# Altium footprint library Inductor_SMD.PcbLib: 259 footprints (part 16 of 17)
Each footprint in its own frame and in the unit in brackets; x right, y up, seen from the top. Pads: shape width x height; smd on the part's side, far side on the other; paste and mask are expansions set on the pad; w line width, h text height; cw(c..) or ccw(c..) is an arc to the next point about the centre after c.
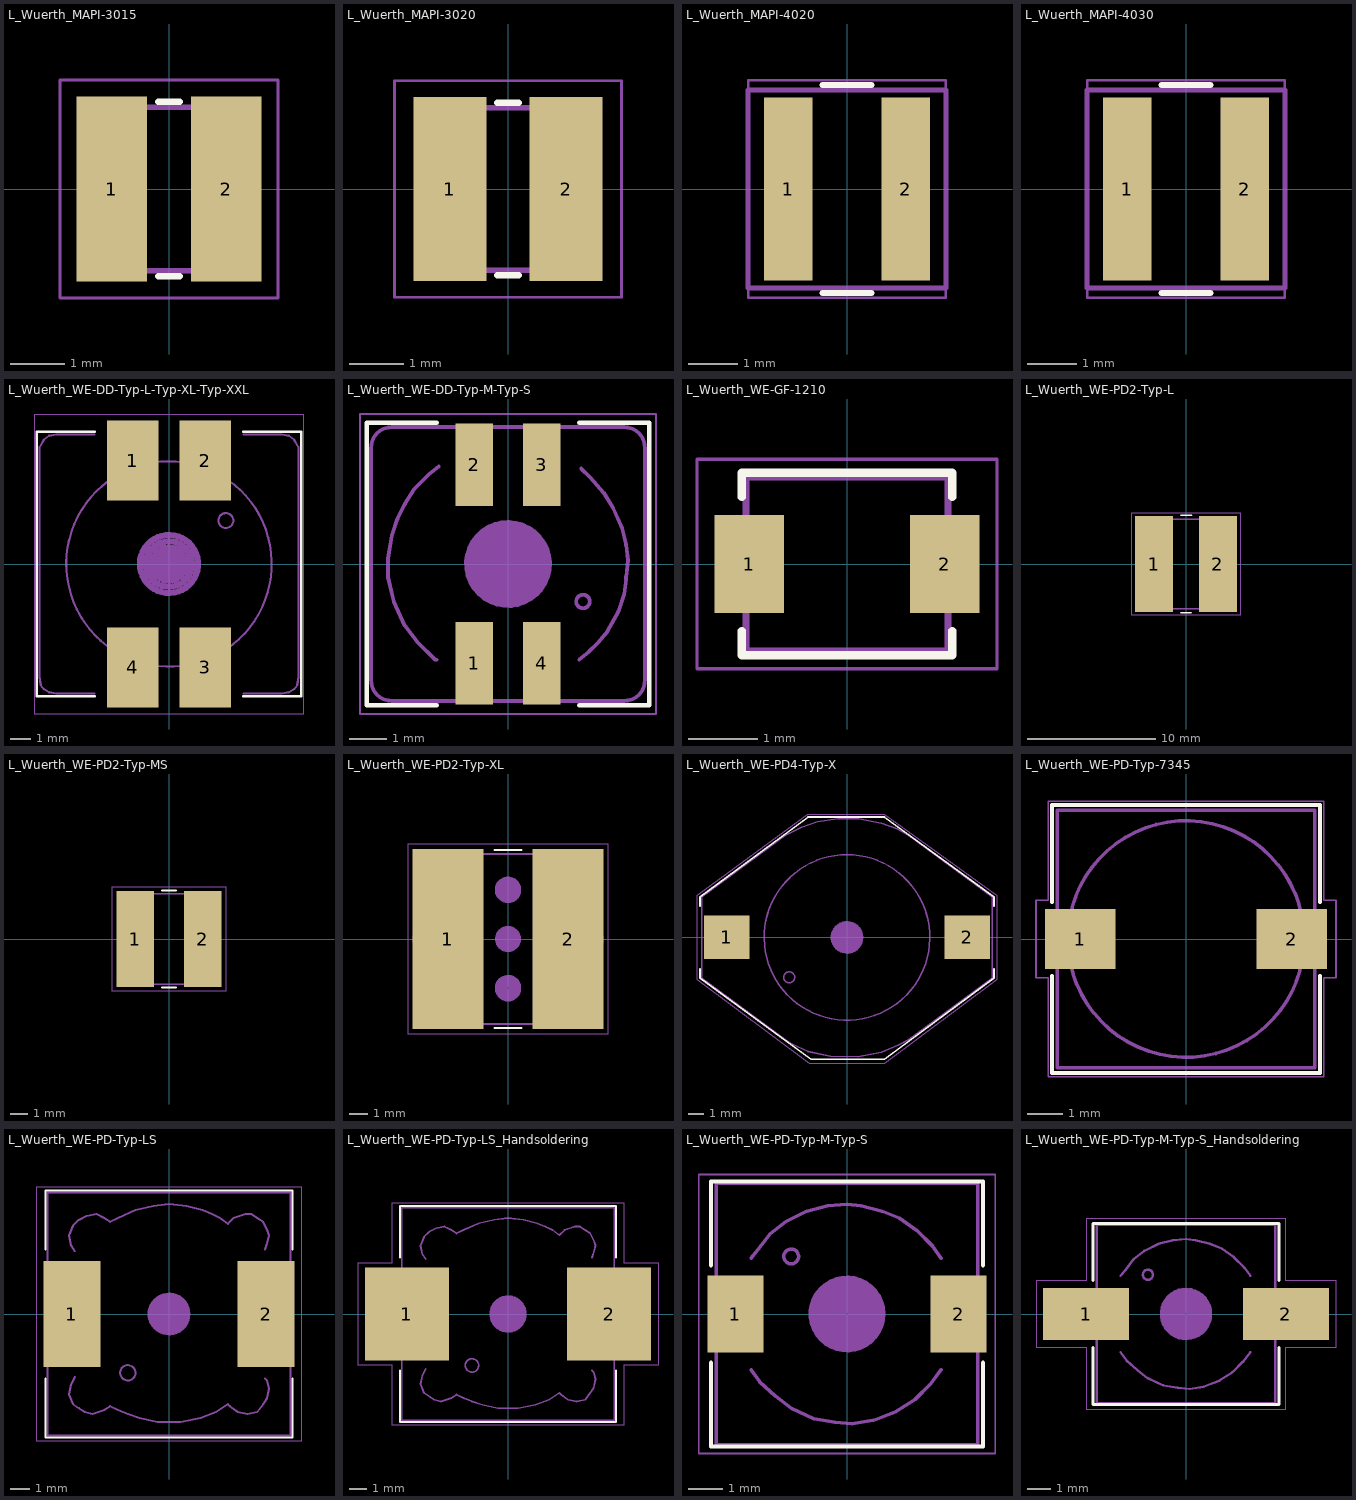
[diagram p15: the footprints below, top view; thin cyan lines are the x and y axes]

## L_Wuerth_MAPI-3015 [mm]
pads (2):
  rect 1.3x3.4 smd: 1(-1.05,0) 2(1.05,0)
F.SilkS:
  lines w0.12: -0.2,-1.6 0.2,-1.6 ; -0.2,1.6 0.2,1.6
F.CrtYd:
  lines w0.05: -2,-2 2,-2 2,2 -2,2 -2,-2
F.Fab:
  lines w0.1: -1.5,-1.5 1.5,-1.5 1.5,1.5 -1.5,1.5 -1.5,-1.5
  text "'.Designator'" at -2.833,-0.588 h0.7

## L_Wuerth_MAPI-3020 [mm]
pads (2):
  rect 1.35x3.4 smd: 1(-1.075,0) 2(1.075,0)
F.SilkS:
  lines w0.12: -0.2,-1.6 0.2,-1.6 ; -0.2,1.6 0.2,1.6
F.CrtYd:
  lines w0.05: -2.1,-2 2.1,-2 2.1,2 -2.1,2 -2.1,-2
F.Fab:
  lines w0.1: -1.5,-1.5 1.5,-1.5 1.5,1.5 -1.5,1.5 -1.5,-1.5
  text "'.Designator'" at -2.833,-0.588 h0.7

## L_Wuerth_MAPI-4020 [mm]
pads (2):
  rect 0.98x3.7 smd: 1(-1.185,0) 2(1.185,0)
F.SilkS:
  lines w0.12: -0.495,-2.1 0.495,-2.1 ; -0.495,2.1 0.495,2.1
F.CrtYd:
  lines w0.05: -2,-2.2 2,-2.2 2,2.2 -2,2.2 -2,-2.2
F.Fab:
  lines w0.1: -2,-2 -2,2 2,2 2,-2 -2,-2
  text "'.Designator'" at -3.267,-0.702 h0.8

## L_Wuerth_MAPI-4030 [mm]
pads (2):
  rect 0.98x3.7 smd: 1(-1.185,0) 2(1.185,0)
F.SilkS:
  lines w0.12: -0.495,-2.1 0.495,-2.1 ; -0.495,2.1 0.495,2.1
F.CrtYd:
  lines w0.05: -2,-2.2 2,-2.2 2,2.2 -2,2.2 -2,-2.2
F.Fab:
  lines w0.1: -2,-2 2,-2 2,2 -2,2 -2,-2
  text "'.Designator'" at -3.267,-0.702 h0.8

## L_Wuerth_WE-DD-Typ-L-Typ-XL-Typ-XXL [mm]
pads (4):
  rect 2.5x3.85 smd: 1(-1.75,5) 2(1.75,5) 3(1.75,-5) 4(-1.75,-5)
F.SilkS:
  lines w0.12: -3.6,-6.4 -6.4,-6.4 -6.4,6.4 -3.6,6.4 ; 3.6,-6.4 6.4,-6.4 6.4,6.4 3.6,6.4
F.CrtYd:
  lines w0.05: -6.5,-7.25 -6.5,7.25 6.5,7.25 6.5,-7.25 -6.5,-7.25
F.Fab:
  circle w0.1: c0,0 r4.966
  circle w0.1: c2.75,2.1 r0.361
  lines w0.1: -3.6,-6.25 -5.45,-6.25 -5.8,-6.2 -6.05,-6.05 -6.2,-5.85 -6.25,-5.45 -6.25,5.45 -6.25,5.65 -6.05,6 -5.8,6.2 -5.45,6.25 -3.6,6.25 ; 3.6,-6.25 5.45,-6.25 5.8,-6.2 6.05,-6.05 6.2,-5.85 6.25,-5.45 6.25,5.45 6.25,5.65 6.05,6 5.8,6.2 5.45,6.25 3.6,6.25
  text "'.Designator'" at -4.047,-0.84 h1
F.Adhes:
  circle w0.3: c0,0 r0.1
  circle w0.3: c0,0 r0.316
  circle w0.3: c0,0 r1.404
  circle w0.3: c0,0 r1.105
  circle w0.3: c0,0 r0.6
  circle w0.3: c0,0 r0.806

## L_Wuerth_WE-DD-Typ-M-Typ-S [mm]
pads (4):
  rect 1x2.2 smd: 1(-0.9,-2.65) 2(-0.9,2.65) 3(0.9,2.65) 4(0.9,-2.65)
F.SilkS:
  lines w0.12: -1.9,-3.77 -3.77,-3.77 -3.77,3.77 -1.9,3.77 ; 1.9,-3.77 3.77,-3.77 3.77,3.77 1.9,3.77
F.CrtYd:
  lines w0.05: -3.95,-4 3.95,-4 3.95,4 -3.95,4 -3.95,-4
F.Fab:
  circle w0.1: c2,-1 r0.18
  lines w0.1: -1.9,-2.55 -1.95,-2.55 -2.4,-2.1 -2.75,-1.65 -3.05,-1 -3.2,-0.35 -3.2,0.15 -3.1,0.75 -2.95,1.2 -2.75,1.6 -2.5,2 -2.1,2.4 -1.85,2.6 ; 1.9,-2.55 2.15,-2.35 2.4,-2.1 2.65,-1.8 2.95,-1.25 3.1,-0.8 3.15,-0.4 ; 1.95,2.55 2.2,2.3 2.55,1.9 2.8,1.5 3.05,0.95 3.15,0.5 3.2,0.1 3.15,-0.35 ; -3.65,-3.1 -3.65,3.1 cw(c-3.1,3.1) -3.1,3.65 3.1,3.65 cw(c3.1,3.1) 3.65,3.1 3.65,-3.1 cw(c3.1,-3.1) 3.1,-3.65 -3.1,-3.65 cw(c-3.1,-3.1) -3.65,-3.1
  text "'.Designator'" at -4.047,-0.84 h1
F.Adhes:
  circle w0.3: c0,0 r0.316
  circle w0.3: c0,0 r0.6
  circle w0.3: c0,0 r0.1
  circle w0.3: c0,0 r0.806
  circle w0.3: c0,0 r1.02
  circle w0.3: c0.8,0 r0

## L_Wuerth_WE-GF-1210 [mm]
pads (2):
  rect 1x1.4 smd: 1(-1.4,0) 2(1.4,0)
F.SilkS:
  lines w0.12: -1.51,-0.96 -1.51,-1.31 1.51,-1.31 1.51,-0.96 ; -1.51,0.96 -1.51,1.31 1.51,1.31 1.51,0.96
F.CrtYd:
  lines w0.05: -2.15,-1.5 2.15,-1.5 2.15,1.5 -2.15,1.5 -2.15,-1.5
F.Fab:
  lines w0.1: -1.6,-0.5 -1.45,-0.5 -1.45,-1.25 1.45,-1.25 1.45,-0.5 1.6,-0.5 1.6,0.5 1.45,0.5 1.45,1.25 -1.45,1.25 -1.45,0.5 -1.6,0.5 -1.6,-0.5
  text "'.Designator'" at -2.438,-0.514 h0.6

## L_Wuerth_WE-PD2-Typ-L [mm]
pads (2):
  rect 3x7.5 smd: 1(-2.5,0) 2(2.5,0)
F.SilkS:
  lines w0.12: -0.4,-3.8 0.4,-3.8 ; -0.4,3.8 0.45,3.8
F.CrtYd:
  lines w0.05: -4.25,-4 -4.25,4 4.25,4 4.25,-4 -4.25,-4
F.Fab:
  lines w0.1: -3.108,3.484 ccw(c3.9,0) -3.1,-3.5 3.1,-3.5 ; -3.1,3.5 3.1,3.5 cw(c-3.9,0) 3.108,-3.484
  text "'.Designator'" at -4.047,-0.84 h1

## L_Wuerth_WE-PD2-Typ-MS [mm]
pads (2):
  rect 2.15x5.5 smd: 1(-1.93,0) 2(1.93,0)
F.SilkS:
  lines w0.12: -0.4,-2.8 0.4,-2.8 ; -0.4,2.8 0.4,2.8
F.CrtYd:
  lines w0.05: -3.25,-3 3.25,-3 3.25,3 -3.25,3 -3.25,-3
F.Fab:
  lines w0.1: -2.201,2.598 ccw(c2.9,0) -2.2,-2.6 2.2,-2.6 ; -2.2,2.6 2.2,2.6 cw(c-2.9,0) 2.201,-2.598
  text "'.Designator'" at -4.047,-0.84 h1

## L_Wuerth_WE-PD2-Typ-XL [mm]
pads (2):
  rect 3.75x9.5 smd: 1(-3.18,0) 2(3.18,0)
F.SilkS:
  lines w0.12: -0.7,-4.7 0.7,-4.7 ; -0.7,4.7 0.7,4.7
F.CrtYd:
  lines w0.05: -5.3,-5 5.3,-5 5.3,5 -5.3,5 -5.3,-5
F.Fab:
  lines w0.1: -1.76,-4.497 cw(c-0.25,0) -1.75,4.5 1.75,4.5 ; -1.75,-4.5 1.75,-4.5 ccw(c0.25,0) 1.76,4.497
  text "'.Designator'" at -4.002,-0.84 h1
F.Adhes:
  circle w0.38: c0,0 r0.5
  circle w0.38: c0,2.6 r0.2
  circle w0.38: c0,-2.6 r0.51
  circle w0.38: c0,-2.6 r0.224
  circle w0.38: c0,0 r0.2
  circle w0.38: c0,2.6 r0.51

## L_Wuerth_WE-PD4-Typ-X [mm]
pads (2):
  rect 2.92x2.79 smd: 1(-7.7,0) 2(7.7,0)
F.SilkS:
  lines w0.12: -9.4,-2 -9.4,-2.6 -2.3,-7.8 2.4,-7.8 9.4,-2.6 9.4,-2 ; -9.4,2 -9.4,2.6 -2.5,7.7 2.4,7.7 9.4,2.6 9.4,2
F.CrtYd:
  lines w0.05: -9.6,-2.7 -9.6,2.7 -2.5,7.9 2.4,7.9 9.6,2.7 9.6,-2.7 2.4,-8.1 -2.4,-8.1 -9.6,-2.7
F.Fab:
  circle w0.1: c-3.7,-2.55 r0.35
  circle w0.1: c0,0 r5.3
  lines w0.1: -9.3,-2.6 -9.3,-2 -9.3,2 -9.3,2.6 -3.95,6.55 -2.9,7.05 -1.9,7.4 -0.6,7.6 0.75,7.6 2.2,7.3 3.2,6.95 3.95,6.55 9.3,2.6 9.3,2 9.3,-2 9.3,-2.6 3.95,-6.55 3.25,-6.9 2.2,-7.35 0.7,-7.65 -1.05,-7.6 -2.5,-7.3 -3.55,-6.8 -3.95,-6.55 -9.3,-2.6
  text "'.Designator'" at -4.047,-0.865 h1
F.Adhes:
  circle w0.3: c0,0 r0.1
  circle w0.3: c0,0 r0.9
  circle w0.3: c0,0 r0.7
  circle w0.3: c0,0 r0.3
  circle w0.3: c0,0 r0.5

## L_Wuerth_WE-PD-Typ-7345 [mm]
pads (2):
  rect 2x1.7 smd: 1(-3,0) 2(3,0)
F.SilkS:
  lines w0.12: -3.8,-1.05 -3.8,-3.8 3.8,-3.8 3.8,-1.05 ; -3.8,1.05 -3.8,3.8 3.8,3.8 3.8,1.05
F.CrtYd:
  lines w0.05: -4.25,-1.1 -4.25,1.1 -3.9,1.1 -3.9,3.9 3.9,3.9 3.9,1.1 4.25,1.1 4.25,-1.1 3.9,-1.1 3.9,-3.9 -3.9,-3.9 -3.9,-1.1 -4.25,-1.1
F.Fab:
  circle w0.1: c0,0 r3.35
  lines w0.1: -3.65,-3.65 3.65,-3.65 3.65,3.65 -3.65,3.65 -3.65,-3.65
  text "'.Designator'" at -4.047,-0.84 h1

## L_Wuerth_WE-PD-Typ-LS [mm]
pads (2):
  rect 2.9x5.4 smd: 1(-4.95,0) 2(4.95,0)
F.SilkS:
  lines w0.12: -6.3,-3.3 -6.3,-6.3 6.3,-6.3 6.3,-3.3 ; -6.3,3.3 -6.3,6.3 6.3,6.3 6.3,3.3
F.CrtYd:
  lines w0.05: -6.75,-6.5 -6.75,6.5 6.75,6.5 6.75,-6.5 -6.75,-6.5
F.Fab:
  circle w0.1: c-2.1,-3 r0.391
  lines w0.1: -4.8,-3.2 -5,-3.6 -5.1,-4.1 -4.9,-4.6 -4.6,-4.8 -4.3,-5 -3.9,-5.1 -3.3,-4.9 -3,-4.7 -2.6,-4.9 -2.1,-5.1 -1.5,-5.3 -0.6,-5.5 0.6,-5.5 1.6,-5.3 2.4,-5 3,-4.6 3.1,-4.7 3.5,-5 4,-5.1 4.5,-5 4.8,-4.6 5,-4.3 5.1,-3.8 5,-3.4 4.9,-3.3 ; -4.8,3.2 -5,3.5 -5.1,4 -4.9,4.5 -4.6,4.8 -4.2,5 -3.7,5.1 -3.3,4.9 -3,4.7 -2.6,4.9 -1.7,5.3 -0.8,5.5 0,5.6 0.9,5.5 1.7,5.3 2.2,5.1 2.6,4.9 3,4.6 3.3,4.9 3.6,5 3.9,5.1 4.2,5.1 4.5,4.9 4.8,4.7 5,4.3 5.1,4 5,3.6 4.9,3.3 ; -6.2,-6.2 -6.2,6.2 6.2,6.2 6.2,-6.2 -6.2,-6.2
  text "'.Designator'" at -4.047,-0.84 h1
F.Adhes:
  circle w0.38: c0,0 r0.212
  circle w0.38: c0,0 r0.55
  circle w0.38: c0,0 r0.9

## L_Wuerth_WE-PD-Typ-LS_Handsoldering [mm]
pads (2):
  rect 4.9x5.4 smd: 1(-5.9,0) 2(5.9,0)
F.SilkS:
  lines w0.12: -6.3,-3.3 -6.3,-6.3 6.3,-6.3 6.3,-3.3 ; -6.3,3.3 -6.3,6.3 6.3,6.3 6.3,3.3
F.CrtYd:
  lines w0.05: -8.75,-3 -6.75,-3 -6.75,-6.5 6.75,-6.5 6.75,-3 8.75,-3 8.75,3 6.75,3 6.75,6.5 -6.75,6.5 -6.75,3 -8.75,3 -8.75,-3
F.Fab:
  circle w0.1: c-2.1,-3 r0.391
  lines w0.1: -4.8,-3.2 -5,-3.6 -5.1,-4.1 -4.9,-4.6 -4.6,-4.8 -4.3,-5 -3.9,-5.1 -3.3,-4.9 -3,-4.7 -2.6,-4.9 -2.1,-5.1 -1.5,-5.3 -0.6,-5.5 0.6,-5.5 1.6,-5.3 2.4,-5 3,-4.6 3.1,-4.7 3.5,-5 4,-5.1 4.5,-5 4.8,-4.6 5,-4.3 5.1,-3.8 5,-3.4 4.9,-3.3 ; -4.8,3.2 -5,3.5 -5.1,4 -4.9,4.5 -4.6,4.8 -4.2,5 -3.7,5.1 -3.3,4.9 -3,4.7 -2.6,4.9 -1.7,5.3 -0.8,5.5 0,5.6 0.9,5.5 1.7,5.3 2.2,5.1 2.6,4.9 3,4.6 3.3,4.9 3.6,5 3.9,5.1 4.2,5.1 4.5,4.9 4.8,4.7 5,4.3 5.1,4 5,3.6 4.9,3.3 ; 6.2,3.3 6.2,6.2 -6.2,6.2 -6.2,3.3 -6.2,-3.3 -6.2,-6.2 6.2,-6.2 6.2,-3.3 6.2,3.4
  text "'.Designator'" at -4.047,-0.84 h1
F.Adhes:
  circle w0.38: c0,0 r0.9
  circle w0.38: c0,0 r0.212
  circle w0.38: c0,0 r0.55

## L_Wuerth_WE-PD-Typ-M-Typ-S [mm]
pads (2):
  rect 1.6x2.2 smd: 1(-3.2,0) 2(3.2,0)
F.SilkS:
  lines w0.12: -3.9,-1.4 -3.9,-3.8 3.9,-3.8 3.9,-1.4 ; -3.9,1.4 -3.9,3.8 3.9,3.8 3.9,1.4
F.CrtYd:
  lines w0.05: -4.25,-4 -4.25,4 4.25,4 4.25,-4 -4.25,-4
F.Fab:
  circle w0.1: c-1.6,1.65 r0.212
  lines w0.1: -2.75,-1.6 -2.5,-1.95 -2.05,-2.35 -1.6,-2.7 -0.95,-3 -0.35,-3.1 0.15,-3.15 0.75,-3.05 1.4,-2.8 1.95,-2.45 2.4,-2 2.7,-1.6 ; -2.75,1.6 -2.55,1.85 -2.2,2.3 -1.75,2.65 -1.15,2.95 -0.55,3.1 0,3.15 0.4,3.1 1,2.95 1.5,2.75 2,2.4 2.45,1.95 2.7,1.6 ; -3.75,-3.75 -3.75,3.75 3.75,3.75 3.75,-3.75 -3.75,-3.75
  text "'.Designator'" at -4.047,-0.84 h1
F.Adhes:
  circle w0.38: c0,0 r0.912
  circle w0.38: c0,0 r0.212
  circle w0.38: c0,0 r0.552

## L_Wuerth_WE-PD-Typ-M-Typ-S_Handsoldering [mm]
pads (2):
  rect 3.6x2.2 smd: 1(-4.2,0) 2(4.2,0)
F.SilkS:
  lines w0.12: -3.9,-1.4 -3.9,-3.8 3.9,-3.8 3.9,-1.4 ; -3.9,1.4 -3.9,3.8 3.9,3.8 3.9,1.4
F.CrtYd:
  lines w0.05: -6.3,-1.4 -4.2,-1.4 -4.2,-4 4.2,-4 4.2,-1.4 6.3,-1.4 6.3,1.4 4.2,1.4 4.2,4 -4.2,4 -4.2,1.4 -6.3,1.4 -6.3,-1.4
F.Fab:
  circle w0.1: c-1.6,1.65 r0.212
  lines w0.1: -2.75,-1.6 -2.5,-1.95 -2.05,-2.35 -1.6,-2.7 -0.95,-3 -0.35,-3.1 0.15,-3.15 0.75,-3.05 1.4,-2.8 1.95,-2.45 2.4,-2 2.7,-1.6 ; -2.75,1.6 -2.55,1.85 -2.2,2.3 -1.75,2.65 -1.15,2.95 -0.55,3.1 0,3.15 0.4,3.1 1,2.95 1.5,2.75 2,2.4 2.45,1.95 2.7,1.6 ; -3.75,-3.75 -3.75,3.75 3.75,3.75 3.75,-3.75 -3.75,-3.75
  text "'.Designator'" at -4.047,-0.84 h1
F.Adhes:
  circle w0.38: c0,0 r0.212
  circle w0.38: c0,0 r0.912
  circle w0.38: c0,0 r0.552